# Altium schematic symbol library LED.SchLib: 1 symbol
Pins are listed as number, name and electrical type; pins without a type are passive.

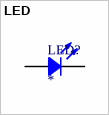
[diagram p0: symbol LED]

## LED
designator LED?
Part Number: SMD LED 0805; Additionner: M.Moghimi; Adding Time: 1400/06/19
footprint SMD LED 0805 RED (SMD LED 0805)
pins: 1, 2